# EAGLE library part ADC128D818CIMT/NOPB (library ADC128D818CIMT_NOPB)
None
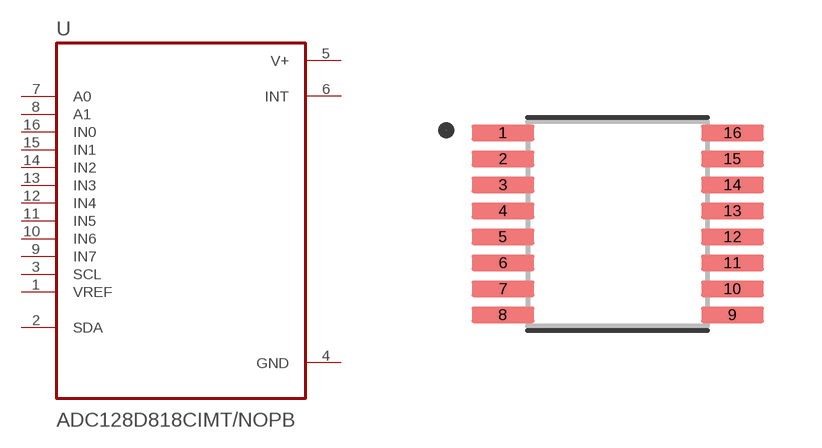
[diagram p0: symbol with the pads of SOP65P640X120-16N; footprint SOP65P640X120-16N]

Designator prefix U

## ADC128D818CIMT/NOPB (Availability: Good; Description: 12-Bit, 8-Channel, ADC System Monitor w/ Temp Sensor, Internal/External Reference, & I2C Interface 16-TSSOP -40 to 125; MF: Texas Instruments; MP: ADC128D818CIMT/NOPB; Package: TSSOP-16 Texas Instruments; Price: 3.94 USD)  [SOP65P640X120-16N]
1  VREF  in
2  SDA
3  SCL  in
4  GND  pwr
5  V+  pwr
6  INT  out
7  A0  in
8  A1  in
9  IN7  in
10  IN6  in
11  IN5  in
12  IN4  in
13  IN3  in
14  IN2  in
15  IN1  in
16  IN0  in

## Footprint SOP65P640X120-16N (pad centres in mm)
smd 1.57 x 0.41: 1 -2.87,2.275; 2 -2.87,1.625; 3 -2.87,0.975; 4 -2.87,0.325; 5 -2.87,-0.325; 6 -2.87,-0.975; 7 -2.87,-1.625; 8 -2.87,-2.275; 9 2.87,-2.275; 10 2.87,-1.625; 11 2.87,-0.975; 12 2.87,-0.325; 13 2.87,0.325; 14 2.87,0.975; 15 2.87,1.625; 16 2.87,2.275